# Altium schematic symbol library RF modules.schlib: 1 symbol
Pins are listed as number, name and electrical type; pins without a type are passive.

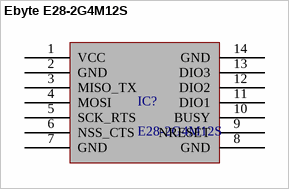
[diagram p0: symbol Ebyte E28-2G4M12S]

## Ebyte E28-2G4M12S
designator IC?, comment E28-2G4M12S
footprint EBYTE E28-2G4M12S
pins: 1 VCC (power), 2 GND, 3 MISO_TX, 4 MOSI, 5 SCK_RTS, 6 NSS_CTS, 7 GND (power), 8 GND (power), 9 NRESET, 10 BUSY, 11 DIO1, 12 DIO2, 13 DIO3, 14 GND (power)